# Altium footprint library PCB - CONNECTOR - SAMTEC IPL1-115-01-XX-D-RA.PCBLIB: 1 footprints
Each footprint in its own frame and in the unit in brackets; x right, y up, seen from the top. Pads: shape width x height; smd on the part's side, far side on the other; paste and mask are expansions set on the pad; w line width, h text height; cw(c..) or ccw(c..) is an arc to the next point about the centre after c.
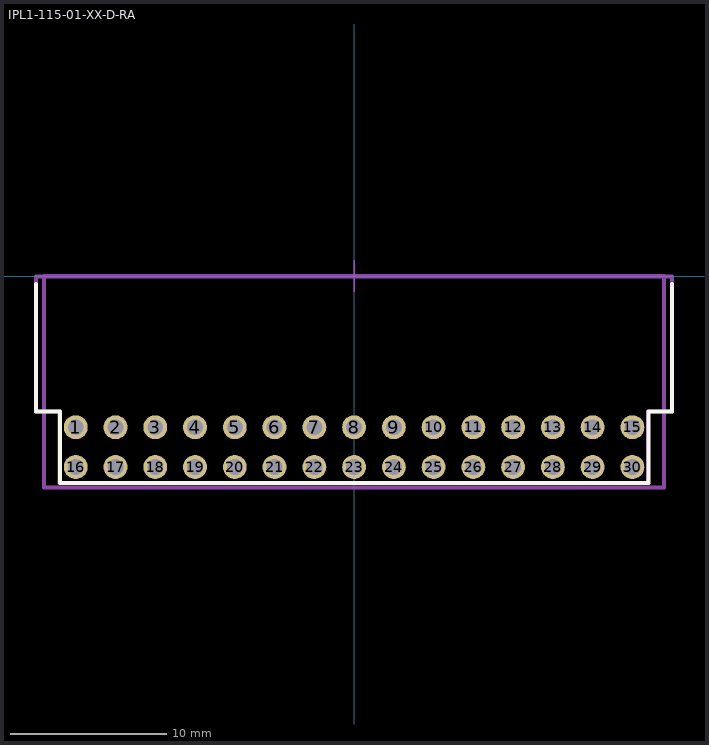
[diagram p0: the footprint, top view; thin cyan lines are the x and y axes]

## IPL1-115-01-XX-D-RA [mil]
pads (30):
  round 60 hole 40 mask+3: 1(-700,-380) 2(-600,-380) 3(-500,-380) 4(-400,-380) 5(-300,-380) 6(-200,-380) 7(-100,-380) 8(0,-380) 9(100,-380) 10(200,-380) 11(300,-380) 12(400,-380) 13(500,-380) 14(600,-380) 15(700,-380) 16(-700,-480) 17(-600,-480) 18(-500,-480) 19(-400,-480) 20(-300,-480) 21(-200,-480) 22(-100,-480) 23(0,-480) 24(100,-480) 25(200,-480) 26(300,-480) 27(400,-480) 28(500,-480) 29(600,-480) 30(700,-480)
Top Overlay:
  lines w10: -800,-20 -800,-340 -740,-340 -740,-520 740,-520 740,-340 800,-340 800,-20
Top Assembly:
  lines w10: -780,-531.5 780,-531.5 780,0 -780,0 -780,-531.5
Top Courtyard:
  lines w10: -800.44,-0.46 -800.44,-340.15 -740.44,-340.15 -740.44,-520.15 739.56,-520.15 739.56,-340.15 799.56,-340.15 799.56,-0.46 ; -799.49,-0.46 799.21,-0.46
Top Designator:
  text ".Designator" at -10,-187.81 h118.11
Top Component Center (Mech11):
  lines w3.94: -39.37,0 39.37,0 ; 0,-39.37 0,39.37
3D body "IPL1-115-01-L-D-RA.stp": height 315, standoff -80, extent -780,-492.5 780,0